# Altium schematic symbol library LM358.SchLib: 1 symbol
Pins are listed as number, name and electrical type; pins without a type are passive.

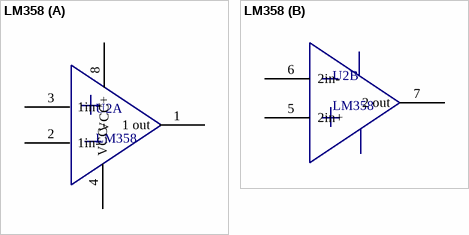
[diagram p0: symbol LM358]

## LM358
designator U2
part A pins: 1 1 out, 2 1in-, 3 1in+, 4 VCC-, 8 VCC+
part B pins: 5 2in+, 6 2in-, 7 2 out